# Altium footprint library MLF64-M2.PcbLib: 1 footprints
Each footprint in its own frame and in the unit in brackets; x right, y up, seen from the top. Pads: shape width x height; smd on the part's side, far side on the other; paste and mask are expansions set on the pad; w line width, h text height; cw(c..) or ccw(c..) is an arc to the next point about the centre after c.
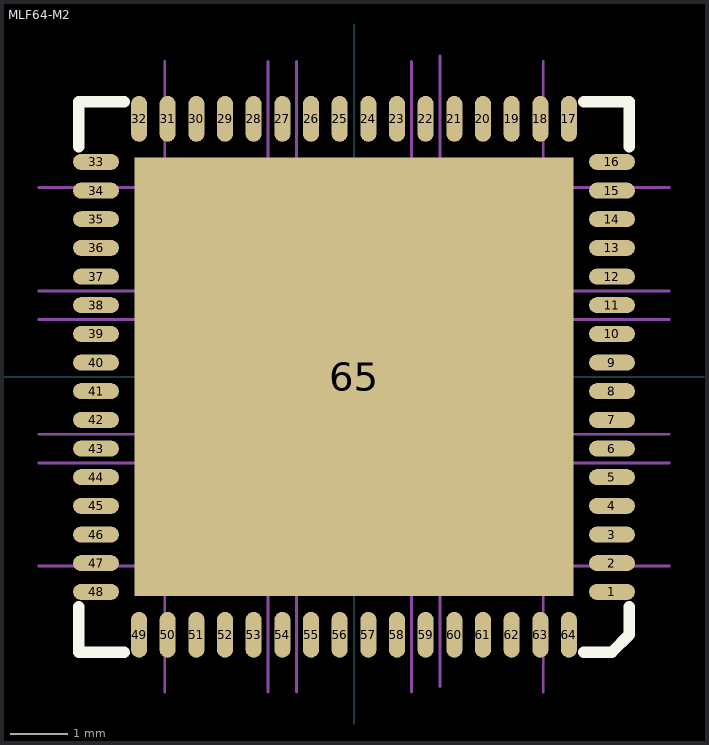
[diagram p0: the footprint, top view; thin cyan lines are the x and y axes]

## MLF64-M2 [mm]
height 0.203
pads (65):
  oval 0.8x0.28 smd paste-0.03 mask+0: 1(4.5,-3.75) 2(4.5,-3.25) 3(4.5,-2.75) 4(4.5,-2.25) 5(4.5,-1.75) 6(4.5,-1.25) 7(4.5,-0.75) 8(4.5,-0.25) 9(4.5,0.25) 10(4.5,0.75) 11(4.5,1.25) 12(4.5,1.75) 13(4.5,2.25) 14(4.5,2.75) 15(4.5,3.25) 16(4.5,3.75) 33(-4.5,3.75) 34(-4.5,3.25) 35(-4.5,2.75) 36(-4.5,2.25) 37(-4.5,1.75) 38(-4.5,1.25) 39(-4.5,0.75) 40(-4.5,0.25) 41(-4.5,-0.25) 42(-4.5,-0.75) 43(-4.5,-1.25) 44(-4.5,-1.75) 45(-4.5,-2.25) 46(-4.5,-2.75) 47(-4.5,-3.25) 48(-4.5,-3.75)
  oval 0.28x0.8 smd paste-0.03 mask+0: 17(3.75,4.5) 18(3.25,4.5) 19(2.75,4.5) 20(2.25,4.5) 21(1.75,4.5) 22(1.25,4.5) 23(0.75,4.5) 24(0.25,4.5) 25(-0.25,4.5) 26(-0.75,4.5) 27(-1.25,4.5) 28(-1.75,4.5) 29(-2.25,4.5) 30(-2.75,4.5) 31(-3.25,4.5) 32(-3.75,4.5) 49(-3.75,-4.5) 50(-3.25,-4.5) 51(-2.75,-4.5) 52(-2.25,-4.5) 53(-1.75,-4.5) 54(-1.25,-4.5) 55(-0.75,-4.5) 56(-0.25,-4.5) 57(0.25,-4.5) 58(0.75,-4.5) 59(1.25,-4.5) 60(1.75,-4.5) 61(2.25,-4.5) 62(2.75,-4.5) 63(3.25,-4.5) 64(3.75,-4.5)
  rect 7.65x7.65 smd paste-2.8 mask+0: 65(0,0)
Top Overlay:
  lines w0.2: -4.8,-4.01 -4.8,-4.8 -4.01,-4.8 ; -4.8,4.01 -4.8,4.8 -4.01,4.8 ; 4.01,-4.8 4.5,-4.8 4.8,-4.5 4.8,-4.01 ; 4.01,4.8 4.8,4.8 4.8,4.01
Top Paste:
  rectangle: -1,1.5 1,3.3
  rectangle: -1,-3.3 1,-1.5
  rectangle: 1.5,-1 3.3,1
  rectangle: -3.3,-1 -1.5,1
  rectangle: -3.3,1.5 -1.5,3.3
  rectangle: 1.5,1.5 3.3,3.3
  rectangle: 1.5,-3.3 3.3,-1.5
  rectangle: -3.3,-3.3 -1.5,-1.5
Mechanical 1:
  lines w0.05: -5.5,-3.3 5.5,-3.3 ; -5.5,-1.5 5.5,-1.5 ; -5.5,-1 5.5,-1 ; -5.5,1 5.5,1 ; -5.5,1.5 5.5,1.5 ; -5.5,3.3 5.5,3.3 ; -3.3,-5.5 -3.3,5.5 ; -1.5,-5.5 -1.5,5.5 ; -1,-5.5 -1,5.5 ; 1,-5.5 1,5.5 ; 1.5,-5.4 1.5,5.6 ; 3.3,-5.5 3.3,5.5